# EAGLE library part TS3A5017 (library BaseApp)
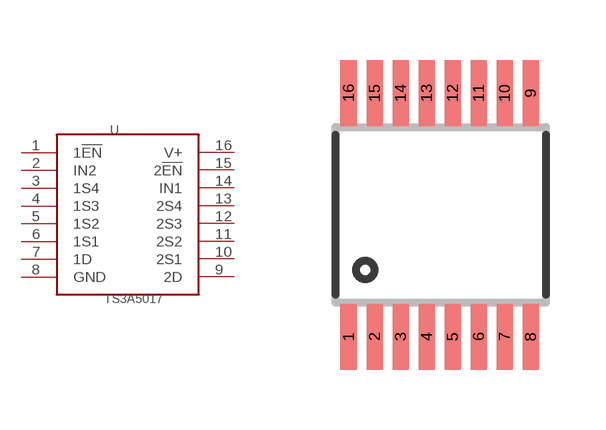
[diagram p72: symbol with the pads of 16TSSOP; footprint 16TSSOP]

Designator prefix -

## TS3A5017  [16TSSOP]
1  1!EN
2  IN2
3  1S4
4  1S3
5  1S2
6  1S1
7  1D
8  GND
9  2D
10  2S1
11  2S2
12  2S3
13  2S4
14  IN1
15  2!EN
16  V+

## Footprint 16TSSOP (pad centres in mm)
smd 0.4 x 1.65: 1 -2.305,-3.05; 2 -1.655,-3.05; 3 -1.005,-3.05; 4 -0.355,-3.05; 5 0.295,-3.05; 6 0.945,-3.05; 7 1.595,-3.05; 8 2.245,-3.05; 9 2.245,3.05; 10 1.595,3.05; 11 0.945,3.05; 12 0.295,3.05; 13 -0.355,3.05; 14 -1.005,3.05; 15 -1.655,3.05; 16 -2.305,3.05